# EAGLE library part L4931CD120-TR (library Eagle Library)
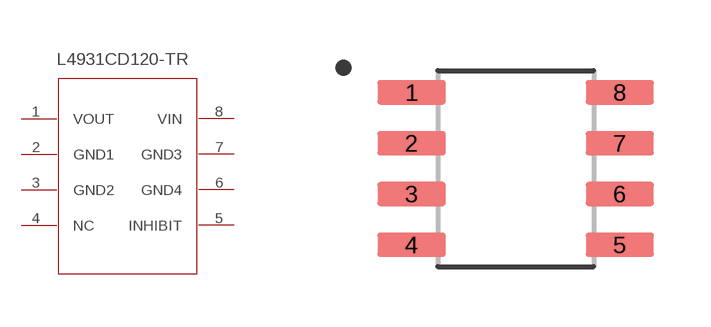
[diagram p2: symbol with the pads of SOIC127P600X175-8N; footprint SOIC127P600X175-8N]

Designator prefix -

## L4931CD120-TR  [SOIC127P600X175-8N]
1  VOUT
2  GND1
3  GND2
4  NC
5  INHIBIT
6  GND4
7  GND3
8  VIN

## Footprint SOIC127P600X175-8N (pad centres in mm)
smd 1.71 x 0.61: 1 -2.605,1.905; 2 -2.605,0.635; 3 -2.605,-0.635; 4 -2.605,-1.905; 5 2.605,-1.905; 6 2.605,-0.635; 7 2.605,0.635; 8 2.605,1.905